# Altium footprint library Nutz.PcbLib: 67 footprints (part 4 of 5)
Each footprint in its own frame and in the unit in brackets; x right, y up, seen from the top. Pads: shape width x height; smd on the part's side, far side on the other; paste and mask are expansions set on the pad; w line width, h text height; cw(c..) or ccw(c..) is an arc to the next point about the centre after c.
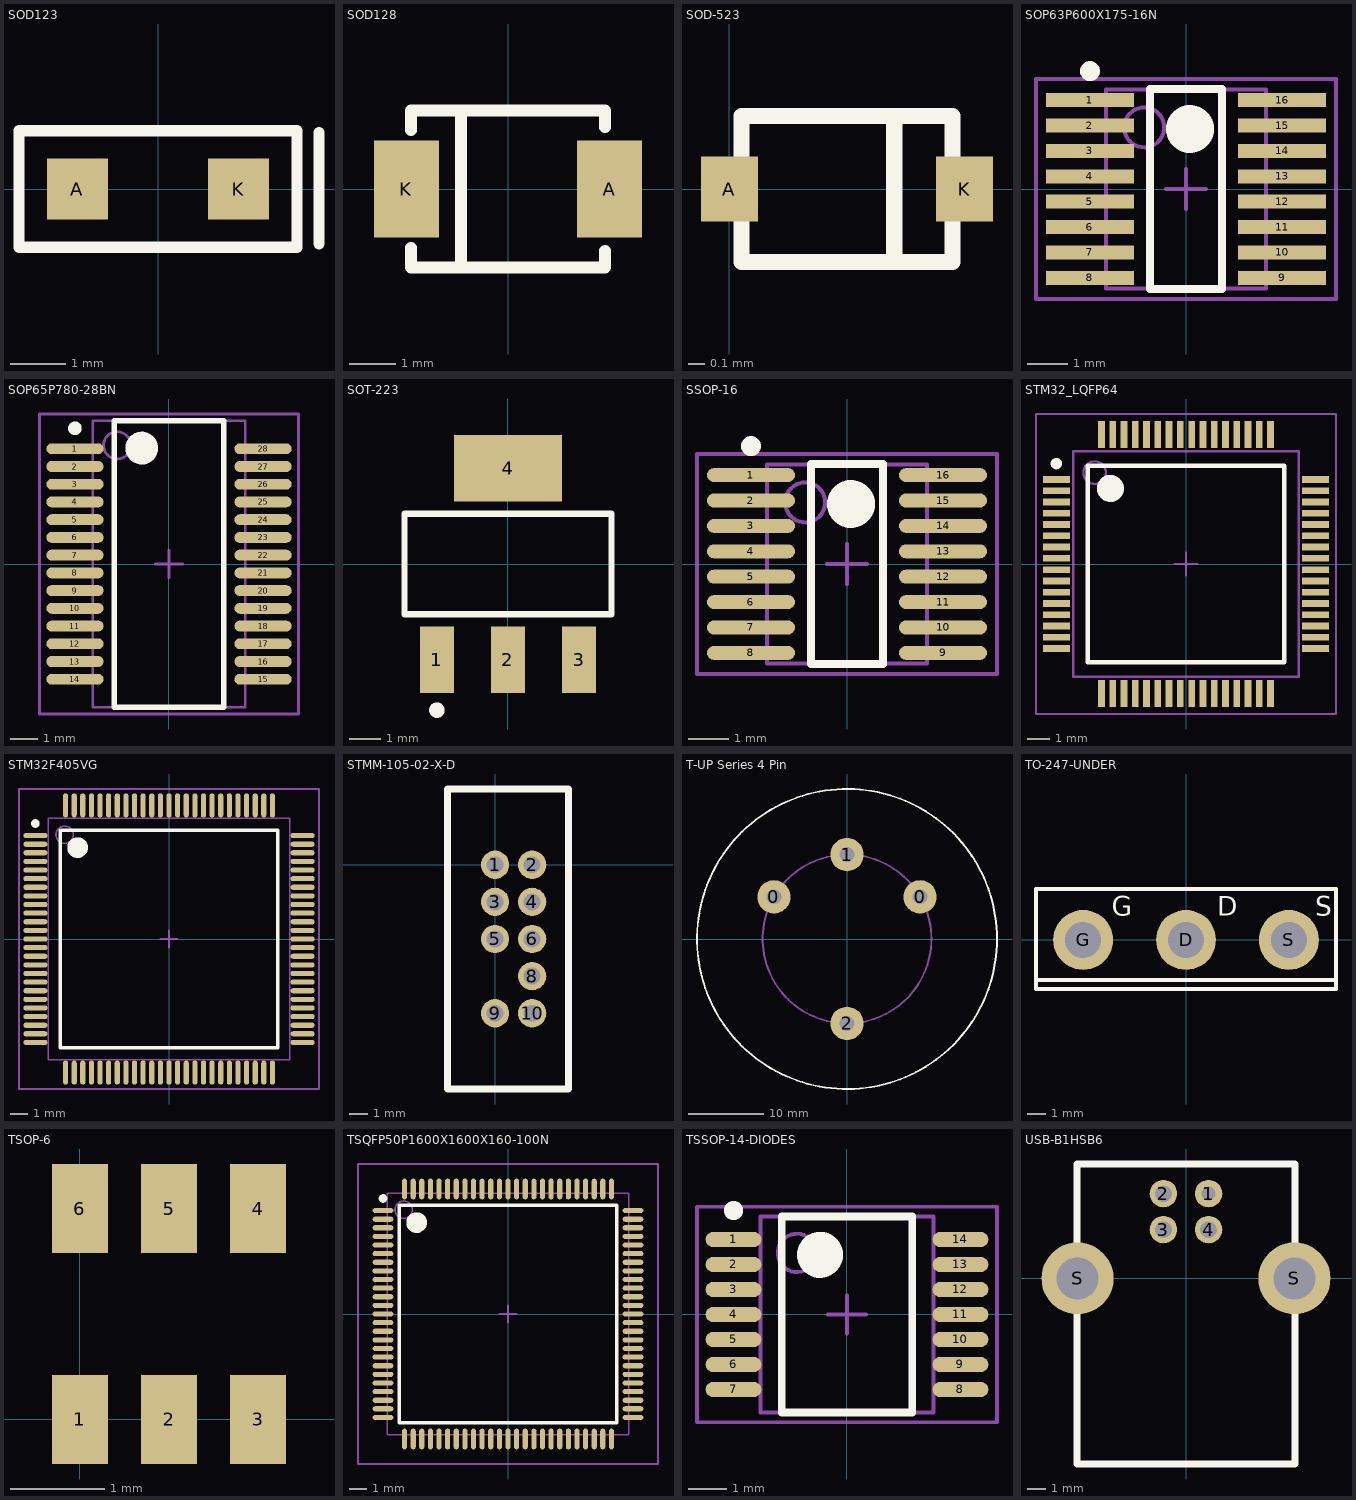
[diagram p3: the footprints below, top view; thin cyan lines are the x and y axes]

## SOD123 [mm]
pads (2):
  rect 1.1x1.1 smd: A(-1.45,0) K(1.45,0)
Top Overlay:
  lines w0.203: 2.896,-0.991 2.896,1.016 ; -2.5,-1.05 2.5,-1.05 2.5,1.05 -2.5,1.05 -2.5,0 -2.5,-1.05

## SOD128 [mm]
pads (2):
  rect 1.4x2.1 smd: A(2.2,0) K(-2.2,0)
Top Overlay:
  lines w0.254: -2.1,-1.27 -2.1,-1.7 2.1,-1.7 2.1,-1.338 ; -2.1,1.27 -2.1,1.7 2.1,1.7 2.1,1.338 ; -1.016,-1.651 -1.016,1.7
3D body: height 1.11, standoff 0, extent -2.6,-1.333 2.6,1.366

## SOD-523 [mm]
pads (2):
  rect 0.35x0.4 smd: A(0,0) K(1.45,0)
Top Overlay:
  lines w0.1: 1.016,-0.45 1.016,0.45 ; 0.075,-0.45 1.375,-0.45 1.375,0.45 0.075,0.45 0.075,-0.45

## SOP63P600X175-16N [mm] "SOP, 16-Leads, Body 5.0x4.0mm (max), Pitch 0.63mm, IPC Medium Density"
height 1.75
pads (16):
  rect 2.2x0.35 smd: 1(-2.4,2.222) 2(-2.4,1.587) 3(-2.4,0.953) 4(-2.4,0.318) 5(-2.4,-0.318) 6(-2.4,-0.953) 7(-2.4,-1.587) 8(-2.4,-2.222) 9(2.4,-2.222) 10(2.4,-1.587) 11(2.4,-0.953) 12(2.4,-0.318) 13(2.4,0.318) 14(2.4,0.953) 15(2.4,1.587) 16(2.4,2.222)
Top Overlay:
  circle w0.25: c-2.4,2.947 r0.125
  circle w0.6: c0.1,1.5 r0.3
  lines w0.2: -0.9,-2.5 -0.9,2.5 0.9,2.5 0.9,-2.5 -0.9,-2.5
Mechanical 13:
  circle w0.1: c-1.045,1.54 r0.5
  lines w0.1: -1.995,-2.49 -1.995,2.49 1.995,2.49 1.995,-2.49 -1.995,-2.49
Mechanical 15:
  lines w0.1: -0.5,0 0.5,0 ; 0,-0.5 0,0.5 ; -3.75,-2.75 -3.75,2.75 3.75,2.75 3.75,-2.75 -3.75,-2.75
3D body: height 1.75, standoff 0.18, extent -1.995,-2.49 1.995,2.49

## SOP65P780-28BN [mm] "SOP, 28-Leads, Body 10.2x5.3mm, Pitch 0.65mm, IPC Medium Density"
height 2
pads (28):
  oval 2.1x0.4 smd: 1(-3.45,4.225) 2(-3.45,3.575) 3(-3.45,2.925) 4(-3.45,2.275) 5(-3.45,1.625) 6(-3.45,0.975) 7(-3.45,0.325) 8(-3.45,-0.325) 9(-3.45,-0.975) 10(-3.45,-1.625) 11(-3.45,-2.275) 12(-3.45,-2.925) 13(-3.45,-3.575) 14(-3.45,-4.225) 15(3.45,-4.225) 16(3.45,-3.575) 17(3.45,-2.925) 18(3.45,-2.275) 19(3.45,-1.625) 20(3.45,-0.975) 21(3.45,-0.325) 22(3.45,0.325) 23(3.45,0.975) 24(3.45,1.625) 25(3.45,2.275) 26(3.45,2.925) 27(3.45,3.575) 28(3.45,4.225)
Top Overlay:
  circle w0.6: c-1,4.25 r0.3
  circle w0.25: c-3.45,4.975 r0.125
  lines w0.2: -2,-5.25 2,-5.25 2,5.25 -2,5.25 -2,-5.25
Mechanical 13:
  circle w0.1: c-1.9,4.35 r0.5
  lines w0.1: -2.8,-5.25 2.8,-5.25 2.8,5.25 -2.8,5.25 -2.8,-5.25
Mechanical 15:
  lines w0.1: -0.5,0 0.5,0 ; 0,-0.5 0,0.5 ; -4.75,-5.5 4.75,-5.5 4.75,5.5 -4.75,5.5 -4.75,-5.5
3D body: height 2, standoff 0, extent -2.8,-5.25 2.8,5.25

## SOT-223 [mm] "SOT-223/SC-73; 4 Leads; Body 6.7 x 7.3 mm, inc. leads (LxW max)"
height 1.8
pads (4):
  rect 1.1x2.15 smd: 1(-2.3,-3.1) 2(0,-3.1) 3(2.3,-3.1)
  rect 3.5x2.15 smd: 4(0,3.1)
Top Overlay:
  circle w0.25: c-2.3,-4.725 r0.125
  lines w0.2: -3.35,-1.625 3.35,-1.625 3.35,1.625 -3.35,1.625 -3.35,-1.625
3D body: height 1.65, standoff -0.03, extent -3.25,-3.48 3.25,3.48

## SSOP-16 [mm]
height 1.75
pads (16):
  oval 2.2x0.35 smd: 1(-2.4,2.222) 2(-2.4,1.587) 3(-2.4,0.953) 4(-2.4,0.318) 5(-2.4,-0.318) 6(-2.4,-0.953) 7(-2.4,-1.587) 8(-2.4,-2.222) 9(2.4,-2.222) 10(2.4,-1.587) 11(2.4,-0.953) 12(2.4,-0.318) 13(2.4,0.318) 14(2.4,0.953) 15(2.4,1.587) 16(2.4,2.222)
Top Overlay:
  circle w0.6: c0.1,1.5 r0.3
  circle w0.25: c-2.4,2.947 r0.125
  lines w0.2: -0.9,-2.5 0.9,-2.5 0.9,2.5 -0.9,2.5 -0.9,-2.5
Mechanical 13:
  circle w0.1: c-1.045,1.54 r0.5
  lines w0.1: -1.995,-2.49 1.995,-2.49 1.995,2.49 -1.995,2.49 -1.995,-2.49
Mechanical 15:
  lines w0.1: -0.5,0 0.5,0 ; 0,-0.5 0,0.5 ; -3.75,-2.75 3.75,-2.75 3.75,2.75 -3.75,2.75 -3.75,-2.75
3D body: height 1.75, standoff 0.18, extent -1.995,-2.49 1.995,2.49

## STM32_LQFP64 [mm] "TSQFP, 64-Leads, Body 12.0x12.0mm (max), Pitch 0.50mm, IPC Medium Density"
height 1.6
pads (64):
  rect 1.2x0.3 smd: 1(-5.75,3.75) 2(-5.75,3.25) 3(-5.75,2.75) 4(-5.75,2.25) 5(-5.75,1.75) 6(-5.75,1.25) 7(-5.75,0.75) 8(-5.75,0.25) 9(-5.75,-0.25) 10(-5.75,-0.75) 11(-5.75,-1.25) 12(-5.75,-1.75) 13(-5.75,-2.25) 14(-5.75,-2.75) 15(-5.75,-3.25) 16(-5.75,-3.75) 33(5.75,-3.75) 34(5.75,-3.25) 35(5.75,-2.75) 36(5.75,-2.25) 37(5.75,-1.75) 38(5.75,-1.25) 39(5.75,-0.75) 40(5.75,-0.25) 41(5.75,0.25) 42(5.75,0.75) 43(5.75,1.25) 44(5.75,1.75) 45(5.75,2.25) 46(5.75,2.75) 47(5.75,3.25) 48(5.75,3.75)
  rect 0.3x1.2 smd: 17(-3.75,-5.75) 18(-3.25,-5.75) 19(-2.75,-5.75) 20(-2.25,-5.75) 21(-1.75,-5.75) 22(-1.25,-5.75) 23(-0.75,-5.75) 24(-0.25,-5.75) 25(0.25,-5.75) 26(0.75,-5.75) 27(1.25,-5.75) 28(1.75,-5.75) 29(2.25,-5.75) 30(2.75,-5.75) 31(3.25,-5.75) 32(3.75,-5.75) 49(3.75,5.75) 50(3.25,5.75) 51(2.75,5.75) 52(2.25,5.75) 53(1.75,5.75) 54(1.25,5.75) 55(0.75,5.75) 56(0.25,5.75) 57(-0.25,5.75) 58(-0.75,5.75) 59(-1.25,5.75) 60(-1.75,5.75) 61(-2.25,5.75) 62(-2.75,5.75) 63(-3.25,5.75) 64(-3.75,5.75)
Top Overlay:
  circle w0.25: c-5.75,4.45 r0.125
  circle w0.6: c-3.35,3.35 r0.3
  lines w0.2: -4.35,-4.35 -4.35,4.35 4.35,4.35 4.35,-4.35 -4.35,-4.35
Mechanical 13:
  circle w0.1: c-4.05,4.05 r0.5
  lines w0.1: -5,-5 -5,5 5,5 5,-5 -5,-5
Mechanical 15:
  lines w0.1: -0.5,0 0.5,0 ; 0,-0.5 0,0.5 ; -6.65,-6.65 -6.65,6.65 6.65,6.65 6.65,-6.65 -6.65,-6.65
3D body: height 1.6, standoff 0, extent -5.994,-6 6.006,6

## STM32F405VG [mm] "TSQFP, 100-Leads, Body 16.2x16.2mm (max), Pitch 0.50mm, IPC Medium Density"
height 1.6
pads (100):
  oval 1.4x0.3 smd: 1(-7.75,6) 2(-7.75,5.5) 3(-7.75,5) 4(-7.75,4.5) 5(-7.75,4) 6(-7.75,3.5) 7(-7.75,3) 8(-7.75,2.5) 9(-7.75,2) 10(-7.75,1.5) 11(-7.75,1) 12(-7.75,0.5) 13(-7.75,0) 14(-7.75,-0.5) 15(-7.75,-1) 16(-7.75,-1.5) 17(-7.75,-2) 18(-7.75,-2.5) 19(-7.75,-3) 20(-7.75,-3.5) 21(-7.75,-4) 22(-7.75,-4.5) 23(-7.75,-5) 24(-7.75,-5.5) 25(-7.75,-6) 51(7.75,-6) 52(7.75,-5.5) 53(7.75,-5) 54(7.75,-4.5) 55(7.75,-4) 56(7.75,-3.5) 57(7.75,-3) 58(7.75,-2.5) 59(7.75,-2) 60(7.75,-1.5) 61(7.75,-1) 62(7.75,-0.5) 63(7.75,0) 64(7.75,0.5) 65(7.75,1) 66(7.75,1.5) 67(7.75,2) 68(7.75,2.5) 69(7.75,3) 70(7.75,3.5) 71(7.75,4) 72(7.75,4.5) 73(7.75,5) 74(7.75,5.5) 75(7.75,6)
  oval 0.3x1.4 smd: 26(-6,-7.75) 27(-5.5,-7.75) 28(-5,-7.75) 29(-4.5,-7.75) 30(-4,-7.75) 31(-3.5,-7.75) 32(-3,-7.75) 33(-2.5,-7.75) 34(-2,-7.75) 35(-1.5,-7.75) 36(-1,-7.75) 37(-0.5,-7.75) 38(0,-7.75) 39(0.5,-7.75) 40(1,-7.75) 41(1.5,-7.75) 42(2,-7.75) 43(2.5,-7.75) 44(3,-7.75) 45(3.5,-7.75) 46(4,-7.75) 47(4.5,-7.75) 48(5,-7.75) 49(5.5,-7.75) 50(6,-7.75) 76(6,7.75) 77(5.5,7.75) 78(5,7.75) 79(4.5,7.75) 80(4,7.75) 81(3.5,7.75) 82(3,7.75) 83(2.5,7.75) 84(2,7.75) 85(1.5,7.75) 86(1,7.75) 87(0.5,7.75) 88(0,7.75) 89(-0.5,7.75) 90(-1,7.75) 91(-1.5,7.75) 92(-2,7.75) 93(-2.5,7.75) 94(-3,7.75) 95(-3.5,7.75) 96(-4,7.75) 97(-4.5,7.75) 98(-5,7.75) 99(-5.5,7.75) 100(-6,7.75)
Top Overlay:
  circle w0.25: c-7.75,6.7 r0.125
  circle w0.6: c-5.3,5.3 r0.3
  lines w0.2: -6.3,-6.3 -6.3,6.3 6.3,6.3 6.3,-6.3 -6.3,-6.3
Mechanical 13:
  circle w0.1: c-6.05,6.05 r0.5
  lines w0.1: -7,-7 -7,7 7,7 7,-7 -7,-7
Mechanical 15:
  lines w0.1: -0.5,0 0.5,0 ; 0,-0.5 0,0.5 ; -8.7,-8.7 -8.7,8.7 8.7,8.7 8.7,-8.7 -8.7,-8.7
3D body: height 1.6, standoff 0.05, extent -7,-7 7,7

## STMM-105-02-X-D [mil]
pads (9):
  round 60 hole 36: 1(0,0) 2(78.74,0) 3(0,-78.74) 4(78.74,-78.74) 5(0,-157.48) 6(78.74,-157.48) 8(78.74,-236.22) 9(0,-314.96) 10(78.74,-314.96)
Top Overlay:
  lines w15: -101.21,-475.65 -101.21,160.66 156.2,160.66 156.2,-475.65 -101.21,-475.65
3D body: height 190, standoff -117, extent -101.21,-475.65 156.2,160.66

## T-UP Series 4 Pin [mm]
pads (4):
  round 4.445 hole 1.981: 0(-9.743,5.625) 0(9.743,5.625) 1(0,11.25) 2(0,-11.25)
Top Overlay:
  circle w0.254: c0,0 r20
Mechanical 13:
  circle w0.254: c0,0 r11.25
3D body: height 62.68, standoff 0, extent -20,-20 20,20

## TO-247-UNDER [mm]
pads (3):
  round 3.175 hole 1.905: D(0,0) G(-5.45,0) S(5.45,0)
Top Overlay:
  lines w0.2: -7.95,-2.118 7.95,-2.118 ; -7.95,-2.6 -7.95,2.7 7.95,2.7 7.95,-2.6 -7.95,-2.6
  text "S" at 6.858,1.27 h1.02
  text "D" at 1.651,1.27 h1.02
  text "G" at -3.937,1.27 h1.02

## TSOP-6 [mm]
pads (6):
  rect 0.6x0.95 smd: 1(0,0) 2(0.95,0) 3(1.9,0) 4(1.9,2.25) 5(0.95,2.25) 6(0,2.25)

## TSQFP50P1600X1600X160-100N [mm] "TSQFP, 100-Leads, Body 16.2x16.2mm (max), Pitch 0.50mm, IPC Medium Density"
height 1.6
pads (100):
  oval 1.2x0.3 smd: 1(-7.25,6) 2(-7.25,5.5) 3(-7.25,5) 4(-7.25,4.5) 5(-7.25,4) 6(-7.25,3.5) 7(-7.25,3) 8(-7.25,2.5) 9(-7.25,2) 10(-7.25,1.5) 11(-7.25,1) 12(-7.25,0.5) 13(-7.25,0) 14(-7.25,-0.5) 15(-7.25,-1) 16(-7.25,-1.5) 17(-7.25,-2) 18(-7.25,-2.5) 19(-7.25,-3) 20(-7.25,-3.5) 21(-7.25,-4) 22(-7.25,-4.5) 23(-7.25,-5) 24(-7.25,-5.5) 25(-7.25,-6) 51(7.25,-6) 52(7.25,-5.5) 53(7.25,-5) 54(7.25,-4.5) 55(7.25,-4) 56(7.25,-3.5) 57(7.25,-3) 58(7.25,-2.5) 59(7.25,-2) 60(7.25,-1.5) 61(7.25,-1) 62(7.25,-0.5) 63(7.25,0) 64(7.25,0.5) 65(7.25,1) 66(7.25,1.5) 67(7.25,2) 68(7.25,2.5) 69(7.25,3) 70(7.25,3.5) 71(7.25,4) 72(7.25,4.5) 73(7.25,5) 74(7.25,5.5) 75(7.25,6)
  oval 0.3x1.2 smd: 26(-6,-7.25) 27(-5.5,-7.25) 28(-5,-7.25) 29(-4.5,-7.25) 30(-4,-7.25) 31(-3.5,-7.25) 32(-3,-7.25) 33(-2.5,-7.25) 34(-2,-7.25) 35(-1.5,-7.25) 36(-1,-7.25) 37(-0.5,-7.25) 38(0,-7.25) 39(0.5,-7.25) 40(1,-7.25) 41(1.5,-7.25) 42(2,-7.25) 43(2.5,-7.25) 44(3,-7.25) 45(3.5,-7.25) 46(4,-7.25) 47(4.5,-7.25) 48(5,-7.25) 49(5.5,-7.25) 50(6,-7.25) 76(6,7.25) 77(5.5,7.25) 78(5,7.25) 79(4.5,7.25) 80(4,7.25) 81(3.5,7.25) 82(3,7.25) 83(2.5,7.25) 84(2,7.25) 85(1.5,7.25) 86(1,7.25) 87(0.5,7.25) 88(0,7.25) 89(-0.5,7.25) 90(-1,7.25) 91(-1.5,7.25) 92(-2,7.25) 93(-2.5,7.25) 94(-3,7.25) 95(-3.5,7.25) 96(-4,7.25) 97(-4.5,7.25) 98(-5,7.25) 99(-5.5,7.25) 100(-6,7.25)
Top Overlay:
  circle w0.25: c-7.25,6.7 r0.125
  circle w0.6: c-5.3,5.3 r0.3
  lines w0.2: -6.3,-6.3 -6.3,6.3 6.3,6.3 6.3,-6.3 -6.3,-6.3
Mechanical 13:
  circle w0.1: c-6.05,6.05 r0.5
  lines w0.1: -7,-7 -7,7 7,7 7,-7 -7,-7
Mechanical 15:
  lines w0.1: -0.5,0 0.5,0 ; 0,-0.5 0,0.5 ; -8.7,-8.7 -8.7,8.7 8.7,8.7 8.7,-8.7 -8.7,-8.7
3D body: height -0.39, standoff -2.01, extent -8,-7.983 8,8.017

## TSSOP-14-DIODES [mm] "TSOP, 14-Leads, Body 5.1x4.5mm (max), Pitch 0.65mm, IPC Medium Density"
height 1.2
pads (14):
  oval 1.45x0.4 smd: 1(-2.95,1.95) 2(-2.95,1.3) 3(-2.95,0.65) 4(-2.95,0) 5(-2.95,-0.65) 6(-2.95,-1.3) 7(-2.95,-1.95) 8(2.95,-1.95) 9(2.95,-1.3) 10(2.95,-0.65) 11(2.95,0) 12(2.95,0.65) 13(2.95,1.3) 14(2.95,1.95)
Top Overlay:
  circle w0.6: c-0.7,1.55 r0.3
  circle w0.25: c-2.95,2.7 r0.125
  lines w0.2: -1.7,-2.55 1.7,-2.55 1.7,2.55 -1.7,2.55 -1.7,-2.55
Mechanical 13:
  circle w0.1: c-1.3,1.6 r0.5
  lines w0.1: -2.25,-2.55 2.25,-2.55 2.25,2.55 -2.25,2.55 -2.25,-2.55
Mechanical 15:
  lines w0.1: -0.5,0 0.5,0 ; 0,-0.5 0,0.5 ; -3.9,-2.8 3.9,-2.8 3.9,2.8 -3.9,2.8 -3.9,-2.8
3D body: height 1.08, standoff -0.02, extent -3.2,-2.55 3.2,2.55

## USB-B1HSB6 [mm]
pads (6):
  round 1.524 hole 0.762: 1(1.25,4.71)
  round 1.524 hole 0.92: 2(-1.25,4.71) 3(-1.25,2.71) 4(1.25,2.71)
  round 4 hole 2.33: S(-6.02,0) S(6.02,0)
Top Overlay:
  lines w0.381: -6.05,-10.3 6.05,-10.3 6.05,0 6.05,6.35 -6.05,6.35 -6.05,0 -6.05,-10.3
3D body: height 11, standoff -4.42, extent -7.378,-10.263 7.506,6.737